# Altium schematic symbol library SA15-11EWA.SchLib: 1 symbol
Pins are listed as number, name and electrical type; pins without a type are passive.

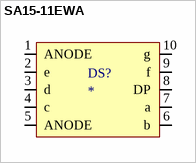
[diagram p0: symbol SA15-11EWA]

## SA15-11EWA
designator DS?
MfrPartNo: *
pins: 1 ANODE, 2 e, 3 d, 4 c, 5 ANODE, 6 b, 7 a, 8 DP, 9 f, 10 g